# Altium footprint library QUAN-AD-Library.PcbLib: 213 footprints (part 11 of 14)
Each footprint in its own frame and in the unit in brackets; x right, y up, seen from the top. Pads: shape width x height; smd on the part's side, far side on the other; paste and mask are expansions set on the pad; w line width, h text height; cw(c..) or ccw(c..) is an arc to the next point about the centre after c.
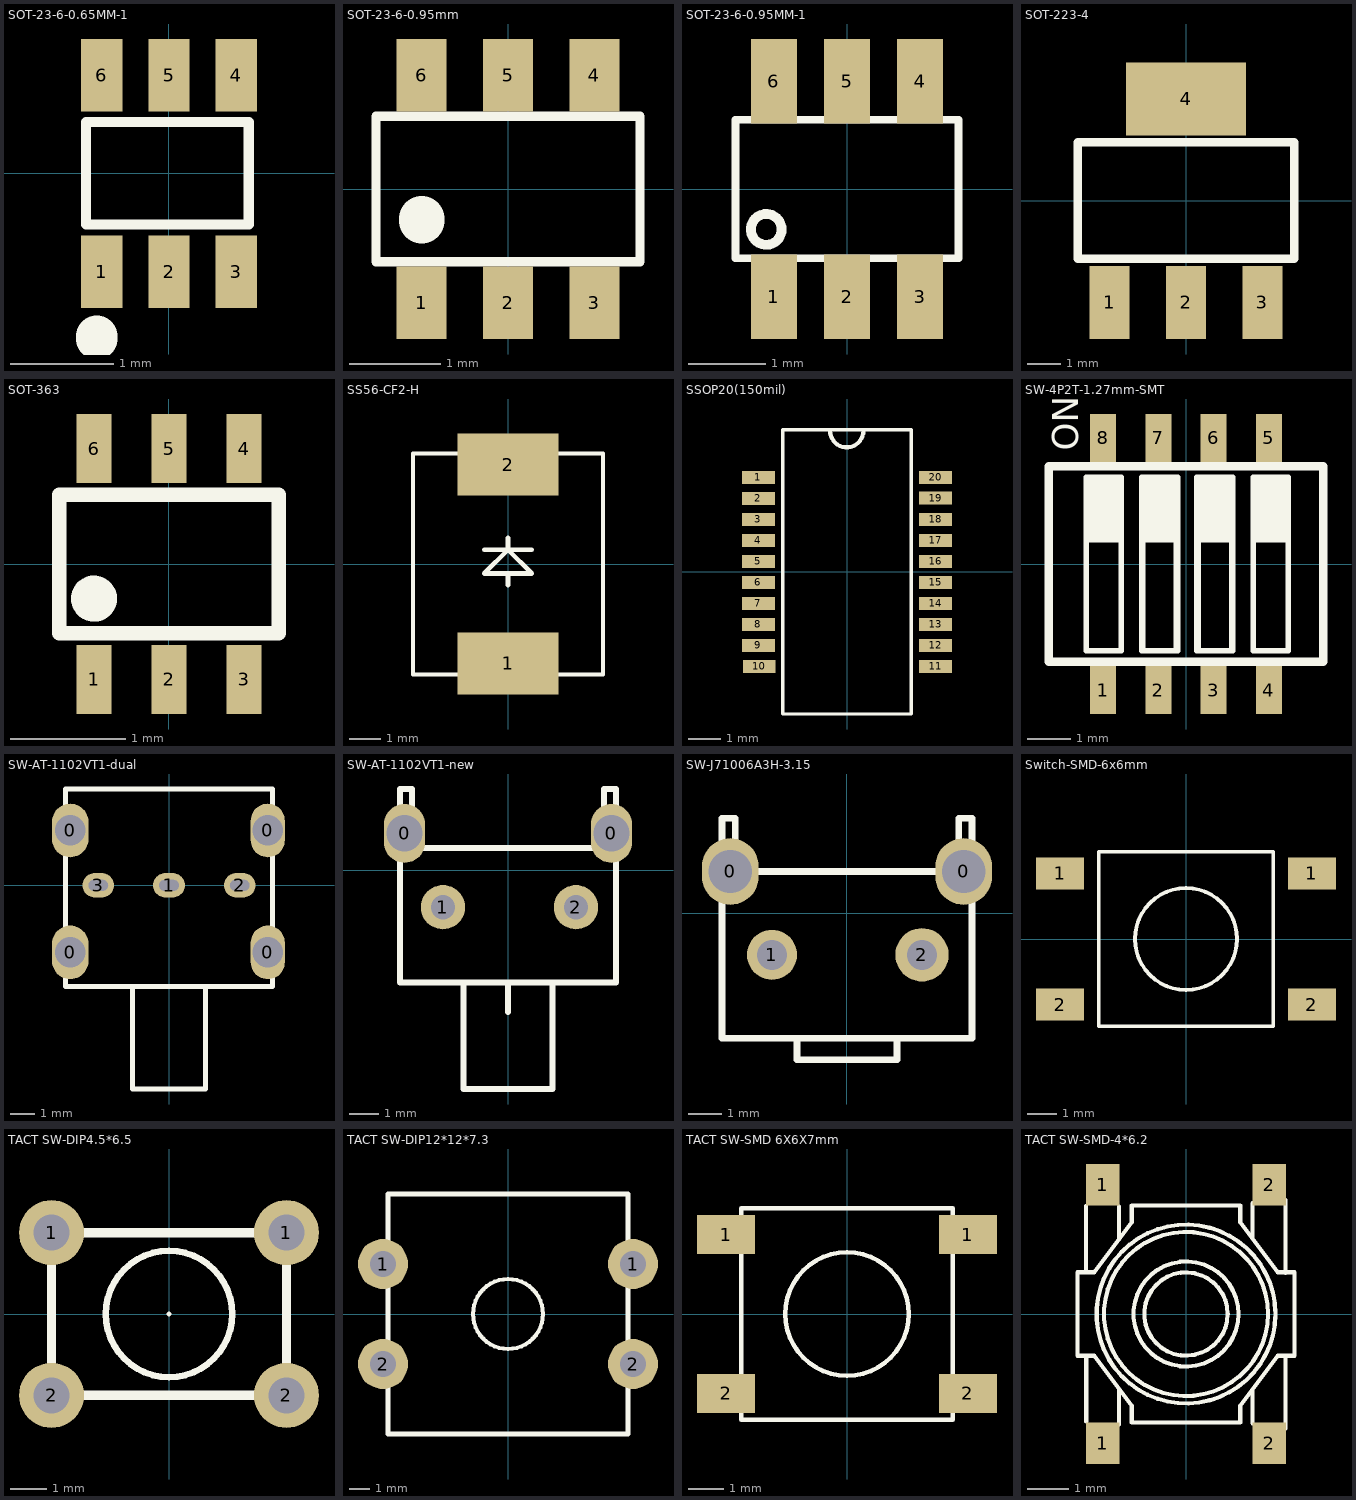
[diagram p10: the footprints below, top view; thin cyan lines are the x and y axes]

## SOT-23-6-0.65MM-1 [mm] "SOT-23-6-0.65MM-1"
pads (6):
  rect 0.4x0.7 smd: 1(-0.65,-0.95) 2(0,-0.95) 3(0.65,-0.95) 4(0.65,0.95) 5(0,0.95) 6(-0.65,0.95)
Top Overlay:
  lines w0.1: -0.802,-0.493 0.772,-0.493 0.772,0.498 -0.802,0.498 -0.802,-0.493
  lines w0.4: -0.7,-1.6 -0.7,-1.575

## SOT-23-6-0.95mm [mm] "SOT-23-6-0.95mm"
pads (6):
  rect 0.55x0.8 smd: 1(-0.95,-1.25) 2(0,-1.25) 3(0.95,-1.25) 4(0.95,1.25) 5(0,1.25) 6(-0.95,1.25)
Top Overlay:
  lines w0.1: -1.45,-0.8 1.45,-0.8 1.45,0.8 -1.45,0.8 -1.45,-0.8
  lines w0.5: -0.95,-0.35 -0.95,-0.325

## SOT-23-6-0.95MM-1 [mm]
pads (6):
  rect 0.6x1.1 smd: 1(-0.95,-1.4) 2(0,-1.4) 3(0.95,-1.4) 4(0.95,1.4) 5(0,1.4) 6(-0.95,1.4)
Top Overlay:
  circle w0.127: c-1.05,-0.525 r0.2
  lines w0.1: -1.45,-0.9 1.45,-0.9 1.45,0.9 -1.45,0.9 -1.45,-0.9

## SOT-223-4 [mm] "SOT-223-4"
pads (4):
  rect 1.2x2.2 smd: 1(-2.3,-3.061) 2(0,-3.061) 3(2.3,-3.061)
  rect 3.6x2.2 smd: 4(0,3.061)
Top Overlay:
  lines w0.254: -3.25,-1.75 3.25,-1.75 3.25,1.75 -3.25,1.75 -3.25,-1.7

## SOT-363 [mm]
pads (6):
  rect 0.3x0.6 smd: 1(-0.65,-1) 2(0,-1) 3(0.65,-1) 4(0.65,1) 5(0,1) 6(-0.65,1)
Top Overlay:
  circle w0.2: c-0.65,-0.3 r0.1
  lines w0.127: -0.95,-0.6 0.95,-0.6 0.95,0.6 -0.95,0.6 -0.95,-0.6

## SS56-CF2-H [mm]
pads (2):
  rect 3.25x2 smd: 1(0,-3.2) 2(0,3.2)
Top Overlay:
  lines w0.127: -3.05,-3.55 -3.05,3.55 3.05,3.55 3.05,-3.55 -3.05,-3.55
  lines w0.152: -0.762,0.458 0.762,0.458 ; 0,-0.685 0,-0.304 ; 0,0.839 0,0.458 ; 0,0.458 -0.762,-0.304 0.762,-0.304 0,0.458

## SSOP20(150mil) [mm] "SSOP20(150mil)"
pads (20):
  rect 1x0.4 smd: 1(-2.7,2.88) 2(-2.7,2.24) 3(-2.7,1.6) 4(-2.7,0.96) 5(-2.7,0.32) 6(-2.7,-0.32) 7(-2.7,-0.96) 8(-2.7,-1.6) 9(-2.7,-2.24) 10(-2.675,-2.88) 11(2.7,-2.88) 12(2.7,-2.24) 13(2.7,-1.6) 14(2.7,-0.96) 15(2.7,-0.32) 16(2.7,0.32) 17(2.7,0.96) 18(2.7,1.6) 19(2.7,2.25) 20(2.7,2.88)
Top Overlay:
  lines w0.1: -1.956,-4.33 -1.956,4.33 1.956,4.33 1.956,-4.33 -1.956,-4.33
  lines w0.127: -0.517,4.305 ccw(c-0.008,4.305) 0.5,4.305

## SW-4P2T-1.27mm-SMT [mm] "SW-4P2T-1.27mm-SMT"
pads (8):
  rect 0.6x1.1 smd: 1(-1.905,-2.9) 2(-0.635,-2.9) 3(0.635,-2.9) 4(1.905,-2.9) 5(1.905,2.9) 6(0.635,2.9) 7(-0.635,2.9) 8(-1.905,2.9)
Top Overlay:
  rectangle: -2.29,0.5 -1.49,2
  rectangle: -0.99,0.5 -0.19,2
  rectangle: 0.28,0.5 1.08,2
  rectangle: -1.02,0.5 -0.22,2
  rectangle: 0.25,0.5 1.05,2
  rectangle: 1.55,0.5 2.35,2
  lines w0.127: -2.29,-2 -2.29,2 -1.49,2 -1.49,-2 -2.29,-2 ; -1.02,-2 -0.22,-2 -0.22,2 -1.02,2 -1.02,-2 ; -0.99,-2 -0.99,2 -0.19,2 -0.19,-2 -0.99,-2 ; 0.25,-2 0.25,2 1.05,2 1.05,-2 0.25,-2 ; 0.28,-2 1.08,-2 1.08,2 0.28,2 0.28,-2 ; 1.55,-2 1.55,2 2.35,2 2.35,-2 1.55,-2
  lines w0.2: -3.155,-2.25 3.155,-2.25 3.155,2.25 -3.155,2.25 -3.155,-2.25
  text "ON" at -2.475,2.6 h0.6

## SW-AT-1102VT1-dual [mm] "SW-AT-1102VT1-new"
pads (7):
  oval 1.5x2.2 hole 1.25: 0(-4.05,-2.75) 0(-4.05,2.25)
  oval 1.4x2.2 hole 1.25: 0(4.05,-2.75) 0(4.05,2.25)
  oval 1.3x1 hole 0.45 slot 0.8 at 0 deg: 1(0,0) 2(2.9,0) 3(-2.9,0)
Top Overlay:
  lines w0.203: -1.5,-4.15 -1.5,-8.35 1.5,-8.35 1.5,-4.15 ; -4.25,-4.15 4.25,-4.15 4.25,3.95 -4.25,3.95 -4.25,-4.15

## SW-AT-1102VT1-new [mm] "SW-AT-1102VT1-new"
pads (4):
  oval 1.4x2 hole 1.227: 0(-3.5,1.25) 0(3.5,1.25)
  round 1.5 hole 0.827: 1(-2.2,-1.25) 2(2.3,-1.25)
Top Overlay:
  lines w0.203: -3.6,0.75 3.7,0.75 ; -3.25,0.85 -3.25,2.75 -3.65,2.75 -3.65,-3.8 0,-3.8 ; -1.5,-3.8 -1.5,-7.4 1.5,-7.4 1.5,-3.8 ; 0,-4.8 0,-3.8 ; 3.25,0.85 3.25,2.75 3.65,2.75 3.65,-3.8 0,-3.8

## SW-J71006A3H-3.15 [mm] "SW-J71006A3H-3.15"
pads (4):
  oval 1.7x2 hole 1.3: 0(-3.5,1.25) 0(3.5,1.25)
  round 1.5 hole 0.9: 1(-2.25,-1.25)
  round 1.6 hole 0.9: 2(2.25,-1.25)
Top Overlay:
  lines w0.203: -3.5,1.25 3.8,1.25 ; -3.35,0.95 -3.35,2.85 -3.75,2.85 -3.75,-3.75 3.75,-3.75 3.75,2.85 3.35,2.85 3.35,0.95 ; -1.5,-3.8 -1.5,-4.4 1.5,-4.4 1.5,-3.8

## Switch-SMD-6x6mm [mm] "Switch-SMD-6x6mm"
pads (4):
  rect 1.65x1.1 smd: 1(-4.325,2.25) 1(4.325,2.25) 2(-4.325,-2.25) 2(4.325,-2.25)
Top Overlay:
  circle w0.127: c0,0 r1.75
  lines w0.127: -3,-3 -3,3 3,3 3,-3 -3,-3

## TACT SW-DIP4.5*6.5 [mm]
pads (4):
  round 1.8 hole 1: 1(-3.25,2.25) 1(3.25,2.25) 2(-3.25,-2.25) 2(3.25,-2.25)
Top Overlay:
  circle w0.178: c0,0 r1.75
  lines w0.127: 0,-0.001 0,0
  lines w0.254: 2.75,2.25 -3.25,2.25 -3.25,-2.25 3.25,-2.25 3.25,2.25

## TACT SW-DIP12*12*7.3 [mm] "TACT SW-DIP12*12*7.3"
pads (4):
  round 2.5 hole 1.3: 1(-6.25,2.5) 1(6.25,2.5) 2(-6.25,-2.5) 2(6.25,-2.5)
Top Overlay:
  circle w0.2: c0,0 r1.75
  lines w0.254: -6,-6 6,-6 6,6 -6,6 -6,-6

## TACT SW-SMD 6X6X7mm [mm] "TACT SW-SMD 6X6X7mm"
pads (4):
  rect 1.65x1.1 smd: 1(-3.425,2.25) 1(3.425,2.25) 2(-3.425,-2.25) 2(3.425,-2.25)
Top Overlay:
  circle w0.127: c0,0 r1.75
  lines w0.127: -3,-3 -3,3 3,3 3,-3 -3,-3

## TACT SW-SMD-4*6.2 [mm] "Switch-SMD-6x6mm"
pads (4):
  rect 0.8x1 smd: 1(-2,-3.1) 1(-2,3.1) 2(2,-3.1) 2(2,3.1)
Top Overlay:
  circle w0.1: c0,0 r1.969
  circle w0.1: c0,0 r2.146
  circle w0.1: c0,0 r1.26
  circle w0.1: c0,0 r1
  lines w0.1: -2.403,0.999 -2.403,2.593 ; -2.395,-2.578 -2.395,-1.009 ; -1.61,-2.656 -1.61,-1.794 ; -1.606,1.785 -1.606,2.582 ; 1.594,-2.623 1.594,-1.827 ; 1.594,1.809 1.594,2.66 ; 2.39,-2.744 2.39,-1.009 ; 2.39,0.991 2.39,2.737 ; -2.6,-1 -2.2,-1 -1.3,-2.2 -1.3,-2.6 1.3,-2.6 1.3,-2.2 2.2,-1 2.6,-1 2.6,1 2.2,1 1.3,2.2 1.3,2.6 -1.3,2.6 -1.3,2.2 -2.2,1 -2.6,1 -2.6,-1